# EAGLE library part SPARKFUN-RF_SI4707 (library si4707)
Silicon Labs Si4707 Weather Band and SAME Data Receiver Weather Band support - 162.4-162.55MHz SAME Processor 1050 Hz alert tone WB digital tuning Package: QFN-20 (SI470X.PAC), 3x3x0.55mm, 20 pin Supply Voltage: 2.7 to 5.5V VDD 1.5 to 3.6V VIO Supply current: 19.1 to 23mA
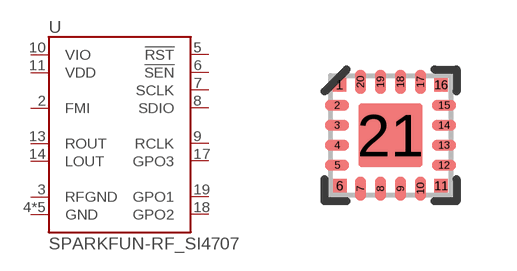
[diagram p0: symbol with the pads of SPARKFUN-RF_SI470X; footprint SPARKFUN-RF_SI470X]

Designator prefix U

## SPARKFUN-RF_SI4707  [SPARKFUN-RF_SI470X]
2  FMI
3  RFGND
4  GND
5  !RST
6  !SEN
7  SCLK
8  SDIO
9  RCLK
10  VIO
11  VDD
12  GND
13  ROUT
14  LOUT
15  GND
16  GND
17  GPO3
18  GPO2
19  GPO1
21  GND

## Footprint SPARKFUN-RF_SI470X (pad centres in mm)
smd 0.34 x 0.34: 1 -1.275,1.265; 6 -1.265,-1.265; 11 1.265,-1.265; 16 1.265,1.265
smd 0.61 x 0.28: 2 -1.335,0.75; 3 -1.335,0.25; 4 -1.335,-0.25; 5 -1.335,-0.75; 12 1.335,-0.75; 13 1.335,-0.25; 14 1.335,0.25; 15 1.335,0.75
smd 0.28 x 0.61: 7 -0.75,-1.335; 8 -0.25,-1.335; 9 0.25,-1.335; 10 0.75,-1.335; 17 0.75,1.335; 18 0.25,1.335; 19 -0.25,1.335; 20 -0.75,1.335
smd 1.6 x 1.6: 21 0,0